# Altium schematic symbol library ADR512ARTZ.SchLib: 1 symbol
Pins are listed as number, name and electrical type; pins without a type are passive.

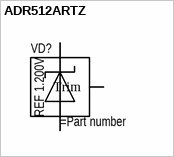
[diagram p0: symbol ADR512ARTZ]

## ADR512ARTZ
designator VD?
pins: 1, 2, 3 Trim
text: REF 1.200V